# Altium schematic symbol library C.Schlib: 1 symbol
Pins are listed as number, name and electrical type; pins without a type are passive.

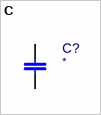
[diagram p0: symbol C]

## C
designator C?
ID: *
footprint C0603
footprint C0805
footprint C1206
footprint C0402
pins: 1, 2